# EAGLE library part TRANSISTOR_ARARY_NPN_ISO4 (library personal_srgPersonal)
NPN Transistor Array 4 isolated transistors Fairchild MMPQ2222A Data Sheet: http://www.fairchildsemi.com/ds/FF/FFB2222A.pdf
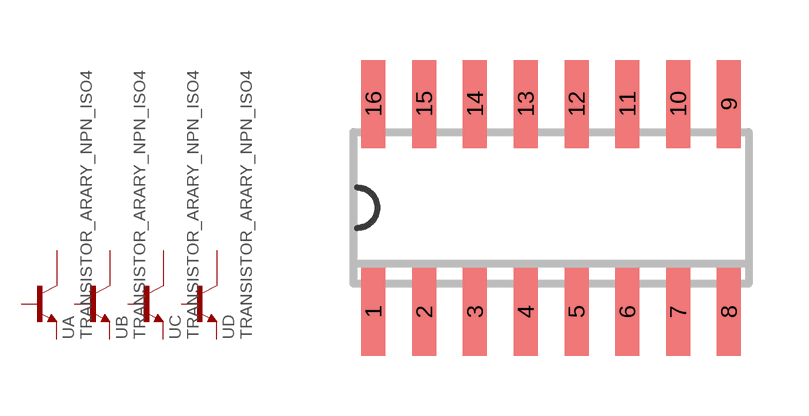
[diagram p6: symbol with the pads of SOIC-16; footprint SOIC-16]

Designator prefix U; gates A=NPN B=NPN C=NPN D=NPN

## TRANSISTOR_ARARY_NPN_ISO4  [SOIC-16]
1  A:COLLECTOR1  pas
2  A:COLLECTOR2  pas
3  B:COLLECTOR1  pas
4  B:COLLECTOR2  pas
5  C:COLLECTOR1  pas
6  C:COLLECTOR2  pas
7  D:COLLECTOR1  pas
8  D:COLLECTOR2  pas
9  D:BASE  pas
10  D:EMITTER  pas
11  C:BASE  pas
12  C:EMITTER  pas
13  B:BASE  pas
14  B:EMITTER  pas
15  A:BASE  pas
16  A:EMITTER  pas

## Footprint SOIC-16 (pad centres in mm)
SOIC-16
smd 0.6 x 2.2: 1 -4.445,-2.6; 2 -3.175,-2.6; 3 -1.905,-2.6; 4 -0.635,-2.6; 5 0.635,-2.6; 6 1.905,-2.6; 7 3.175,-2.6; 8 4.445,-2.6; 9 4.445,2.6; 10 3.175,2.6; 11 1.905,2.6; 12 0.635,2.6; 13 -0.635,2.6; 14 -1.905,2.6; 15 -3.175,2.6; 16 -4.445,2.6